# EAGLE library part FFC1.0_8P (library Pocket_Beagle_Pinout)
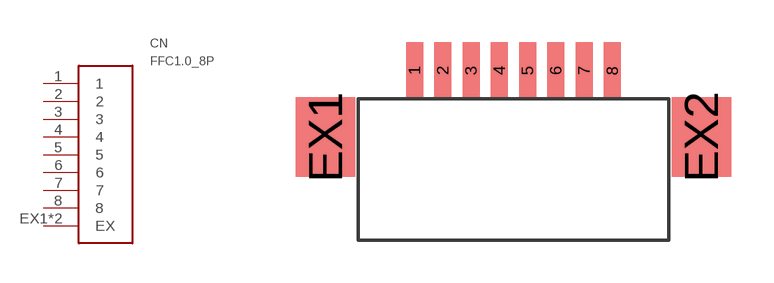
[diagram p5: symbol with the pads of FFC1.0_8P; footprint FFC1.0_8P]

Designator prefix CN

## FFC1.0_8P  [FFC1.0_8P]
1  1
2  2
3  3
4  4
5  5
6  6
7  7
8  8
EX1  EX
EX2  EX

## Footprint FFC1.0_8P (pad centres in mm)
smd 0.6 x 2: 1 0,0; 2 1,0; 3 2,0; 4 3,0; 5 4,0; 6 5,0; 7 6,0; 8 7,0
smd 2.1 x 2.8: EX1 -3.15,-2.35; EX2 10.15,-2.35